# Altium schematic symbol library capacitor.SchLib: 57 symbols
Pins are listed as number, name and electrical type; pins without a type are passive.

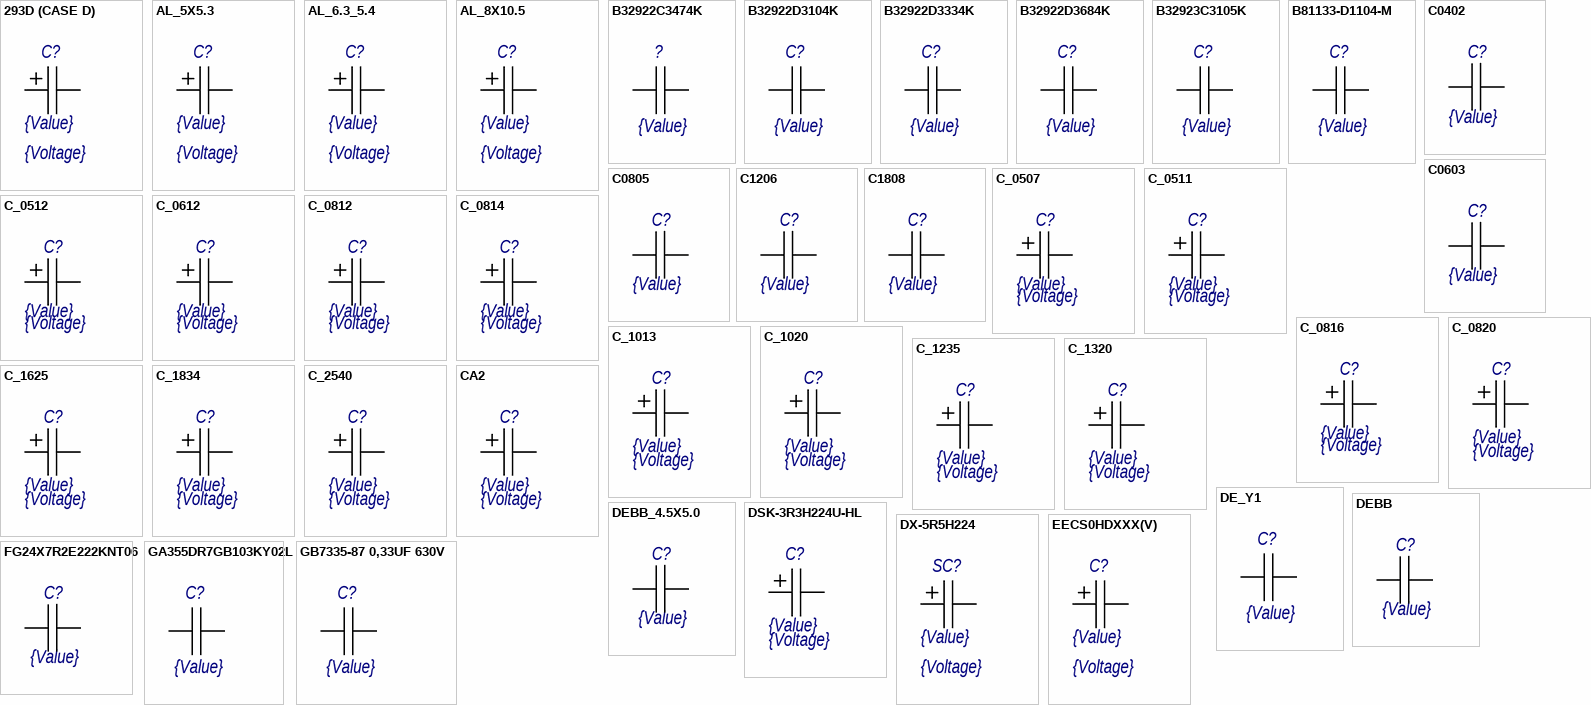
[diagram p0: symbols 293D (CASE D) to GB7335-87 0,33UF 630V]

## 293D (CASE D)
designator C?  value {Value}  Voltage: {Voltage}  (hidden comment: 293D (CASE D))
Prec: {Prec}; Term: {Term}; Pack: {Pack}
footprint 293D CASE D
pins: 1 A, 2 B

## AL_5X5.3
designator C?  value {Value}  Voltage: {Voltage}  (hidden comment: AL_5X5.3)
Prec: {Prec}; Term: {Term}; Pack: {Pack}
footprint AL_5X5.3
pins: 1 A, 2 B

## AL_6.3_5.4
designator C?  value {Value}  Voltage: {Voltage}  (hidden comment: AL_6.3_5.4)
Prec: {Prec}; Term: {Term}; Pack: {Pack}
footprint AL_6.3_5.4
pins: 1 A, 2 B

## AL_8X10.5
designator C?  value {Value}  Voltage: {Voltage}  (hidden comment: AL_8X10.5)
Prec: {Prec}; Term: {Term}; Pack: {Pack}
footprint AL_8X10.5
pins: 1 A, 2 B

## B32922C3474K
designator ?  value {Value}  (hidden comment: B32922C3474K)
Prec: {Prec}; Voltage: {Voltage}; Term: {Term}; Pack: {Pack}
footprint B32922C3474K
pins: 1 A, 2 B

## B32922D3104K
designator C?  value {Value}  (hidden comment: B32922D3104K)
Prec: {Prec}; Voltage: {Voltage}; Term: {Term}; Pack: {Pack}
footprint B32922D3104K
pins: 1 A, 2 B

## B32922D3334K
designator C?  value {Value}  (hidden comment: B32922D3334K)
Prec: {Prec}; Voltage: {Voltage}; Term: {Term}; Pack: {Pack}
footprint B32922D3334K
pins: 1 A, 2 B

## B32922D3684K
designator C?  value {Value}  (hidden comment: B32922D3684K)
Prec: {Prec}; Voltage: {Voltage}; Term: {Term}; Pack: {Pack}
footprint B32922D3684K
pins: 1 A, 2 B

## B32923C3105K
designator C?  value {Value}  (hidden comment: B32923C3105K)
Prec: {Prec}; Voltage: {Voltage}; Term: {Term}; Pack: {Pack}
footprint B32923C3105
pins: 1 A, 2 B

## B81133-D1104-M
designator C?  value {Value}  (hidden comment: B81133-D1104-M)
Prec: {Prec}; Voltage: {Voltage}; Term: {Term}; Pack: {Pack}
footprint K73-17-0.1UF-400V
pins: 1 A, 2 B

## C0402
designator C?  value {Value}  (hidden comment: C0402)
Prec: {Prec}; Voltage: {Voltage}; Term: {Term}; Pack: {Pack}
footprint SMD0402
pins: 1 A, 2 B

## C0603
designator C?  value {Value}  (hidden comment: C0603)
Prec: {Prec}; Voltage: {Voltage}; Term: {Term}; Pack: {Pack}
footprint SMD0603
pins: 1 A, 2 B

## C0805
designator C?  value {Value}  (hidden comment: C0805)
Prec: {Prec}; Voltage: {Voltage}; Term: {Term}; Pack: {Pack}
footprint SMD0805
pins: 1 A, 2 B

## C1206
designator C?  value {Value}  (hidden comment: C1206)
Prec: {Prec}; Voltage: {Voltage}; Term: {Term}; Pack: {Pack}
footprint SMD1206
pins: 1 A, 2 B

## C1808
designator C?  value {Value}  (hidden comment: C1808)
Prec: {Prec}; Voltage: {Voltage}; Term: {Term}; Pack: {Pack}
footprint SMD1808
pins: 1 A, 2 B

## C_0507
designator C?  value {Value}  Voltage: {Voltage}  (hidden comment: C_0507)
Prec: {Prec}; Term: {Term}; Pack: {Pack}
footprint C_0507
pins: 1 A, 2 B

## C_0511
designator C?  value {Value}  Voltage: {Voltage}  (hidden comment: C_0511)
Prec: {Prec}; Term: {Term}; Pack: {Pack}
footprint C_0511
pins: 1 A, 2 B

## C_0512
designator C?  value {Value}  Voltage: {Voltage}  (hidden comment: C_0512)
Prec: {Prec}; Term: {Term}; Pack: {Pack}
footprint C_0512
pins: 1 A, 2 B

## C_0612
designator C?  value {Value}  Voltage: {Voltage}  (hidden comment: C_0612)
Prec: {Prec}; Term: {Term}; Pack: {Pack}
footprint C_0612
pins: 1 A, 2 B

## C_0812
designator C?  value {Value}  Voltage: {Voltage}  (hidden comment: C_0812)
Prec: {Prec}; Term: {Term}; Pack: {Pack}
footprint C_0812
pins: 1 A, 2 B

## C_0814
designator C?  value {Value}  Voltage: {Voltage}  (hidden comment: C_0814)
Prec: {Prec}; Term: {Term}; Pack: {Pack}
footprint C_0814
pins: 1 A, 2 B

## C_0816
designator C?  value {Value}  Voltage: {Voltage}  (hidden comment: C_0816)
Prec: {Prec}; Term: {Term}; Pack: {Pack}
footprint C_0816
pins: 1 A, 2 B

## C_0820
designator C?  value {Value}  Voltage: {Voltage}  (hidden comment: C_0820)
Prec: {Prec}; Term: {Term}; Pack: {Pack}
footprint C_0820
pins: 1 A, 2 B

## C_1013
designator C?  value {Value}  Voltage: {Voltage}  (hidden comment: C_1013)
Prec: {Prec}; Term: {Term}; Pack: {Pack}
footprint C_1013
pins: 1 A, 2 B

## C_1020
designator C?  value {Value}  Voltage: {Voltage}  (hidden comment: C_1020)
Prec: {Prec}; Term: {Term}; Pack: {Pack}
footprint C_1020
pins: 1 A, 2 B

## C_1235
designator C?  value {Value}  Voltage: {Voltage}  (hidden comment: C_1235)
Prec: {Prec}; Term: {Term}; Pack: {Pack}; ComponentHeight: 35
footprint C_1235
pins: 1 A, 2 B

## C_1320
designator C?  value {Value}  Voltage: {Voltage}  (hidden comment: C_1320)
Prec: {Prec}; Term: {Term}; Pack: {Pack}
footprint C_1320
pins: 1 A, 2 B

## C_1625
designator C?  value {Value}  Voltage: {Voltage}  (hidden comment: C_1625)
Prec: {Prec}; Term: {Term}; Pack: {Pack}
footprint C_1625
pins: 1 A, 2 B

## C_1834
designator C?  value {Value}  Voltage: {Voltage}  (hidden comment: C_1834)
Prec: {Prec}; Term: {Term}; Pack: {Pack}
footprint C_1834
pins: 1 A, 2 B

## C_2540
designator C?  value {Value}  Voltage: {Voltage}  (hidden comment: C_2540)
Prec: {Prec}; Term: {Term}; Pack: {Pack}
footprint C_2540
pins: 1 A, 2 B

## CA2
designator C?  value {Value}  Voltage: {Voltage}  (hidden comment: CA2)
Prec: {Prec}; Term: {Term}; Pack: {Pack}
footprint CA2
pins: 1 A, 2 B

## DE_Y1
designator C?  value {Value}  (hidden comment: DE_Y1)
Prec: {Prec}; Voltage: {Voltage}; Term: {Term}; Pack: {Pack}
footprint DE
pins: 1 A, 2 B

## DEBB
designator C?  value {Value}  (hidden comment: DEBB)
Prec: {Prec}; Voltage: {Voltage}; Term: {Term}; Pack: {Pack}
footprint DEBB
pins: 1 A, 2 B

## DEBB_4.5X5.0
designator C?  value {Value}  (hidden comment: DEBB_4.5X5.0)
Prec: {Prec}; Voltage: {Voltage}; Term: {Term}; Pack: {Pack}
footprint DEBB_4.5X5.0
pins: 1 A, 2 B

## DSK-3R3H224U-HL
designator C?  value {Value}  Voltage: {Voltage}  (hidden comment: DSK-3R3H224U-HL)
Prec: {Prec}; Term: {Term}; Pack: {Pack}
footprint DSK_DS
pins: 1 A, 2 B

## DX-5R5H224
designator SC?  value {Value}  Voltage: {Voltage}  (hidden comment: DX-5R5H224)
Prec: {Prec}; Term: {Term}; Pack: {Pack}
footprint DX-5R5H224_DX-5R5H224(Primary)
pins: 1 A, 2 B

## EECS0HDXXX(V)
designator C?  value {Value}  Voltage: {Voltage}  (hidden comment: EECS0HDXXX(V))
Prec: {Prec}; Term: {Term}; Pack: {Pack}
footprint EECS0HDXXX
pins: 1 A, 2 B

## FG24X7R2E222KNT06
designator C?  value {Value}  (hidden comment: FG24X7R2E222KNT06)
Prec: {Prec}; Voltage: {Voltage}; Term: {Term}; Pack: {Pack}
footprint CAP 5mm
pins: 1 A, 2 B

## GA355DR7GB103KY02L
designator C?  value {Value}  (hidden comment: GA355DR7GB103KY02L)
Prec: {Prec}; Voltage: {Voltage}; Term: {Term}; Pack: {Pack}
footprint SMD2220
pins: 1 A, 2 B

## GB7335-87 0,33UF 630V
designator C?  value {Value}  (hidden comment: GB7335-87 0,33UF 630V)
Prec: {Prec}; Voltage: {Voltage}; Term: {Term}; Pack: {Pack}
footprint GB7335-87 0.33 630V
pins: 1 A, 2 B

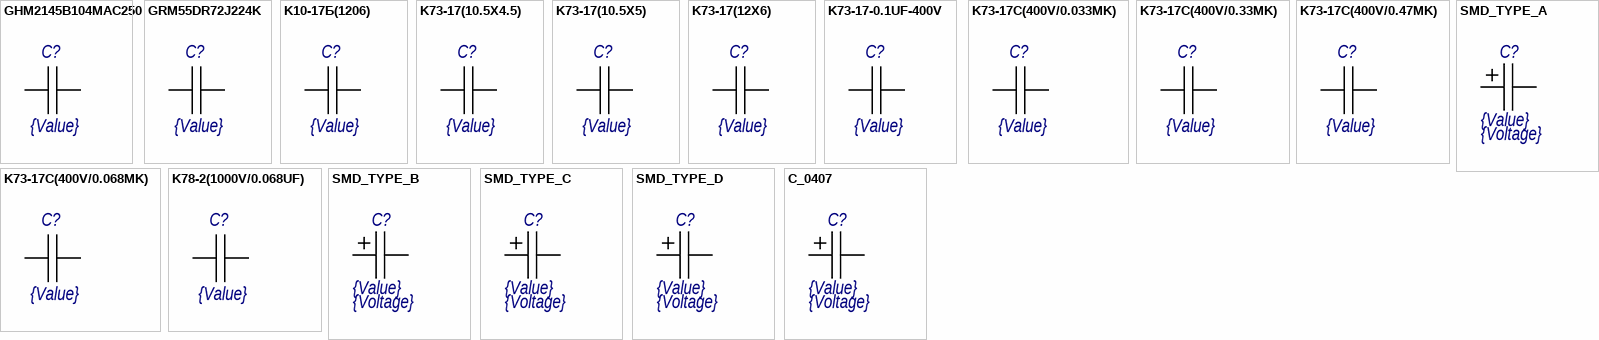
[diagram p1: symbols GHM2145B104MAC250 to С_0407]

## GHM2145B104MAC250
designator C?  value {Value}  (hidden comment: GHM2145B104MAC250)
Prec: {Prec}; Voltage: {Voltage}; Term: {Term}; Pack: {Pack}
footprint SMD2220
pins: 1 A, 2 B

## GRM55DR72J224K
designator C?  value {Value}  (hidden comment: GRM55DR72J224K)
Prec: {Prec}; Voltage: {Voltage}; Term: {Term}; Pack: {Pack}
footprint SMD2220
pins: 1 A, 2 B

## K10-17Б(1206)
designator C?  value {Value}  (hidden comment: K10-17Б(1206))
Prec: {Prec}; Voltage: {Voltage}; Term: {Term}; Pack: {Pack}
footprint K10-17Б(1206)
pins: 1 A, 2 B

## K73-17(10.5X4.5)
designator C?  value {Value}  (hidden comment: K73-17(10.5X4.5))
Prec: {Prec}; Voltage: {Voltage}; Term: {Term}; Pack: {Pack}
footprint K73-17(10.5X4.5)
pins: 1 A, 2 B

## K73-17(10.5X5)
designator C?  value {Value}  (hidden comment: K73-17(10.5X5))
Prec: {Prec}; Voltage: {Voltage}; Term: {Term}; Pack: {Pack}
footprint K73-17(10.5X5)
pins: 1 A, 2 B

## K73-17(12X6)
designator C?  value {Value}  (hidden comment: K73-17(12X6))
Prec: {Prec}; Voltage: {Voltage}; Term: {Term}; Pack: {Pack}
footprint K73-17(12X6)
pins: 1 A, 2 B

## K73-17-0.1UF-400V
designator C?  value {Value}  (hidden comment: K73-17-0.1UF-400V)
Prec: {Prec}; Voltage: {Voltage}; Term: {Term}; Pack: {Pack}
footprint K73-17-0.1UF-400V
pins: 1 A, 2 B

## K73-17C(400V/0.033MK)
designator C?  value {Value}  (hidden comment: K73-17C(400V/0.033MK))
Prec: {Prec}; Voltage: {Voltage}; Term: {Term}; Pack: {Pack}
footprint K73-17C(400V/0.033MK)
pins: 1 A, 2 B

## K73-17C(400V/0.33MK)
designator C?  value {Value}  (hidden comment: K73-17C(400V/0.33MK))
Prec: {Prec}; Voltage: {Voltage}; Term: {Term}; Pack: {Pack}
footprint L23B8.5H19A20
pins: 1 A, 2 B

## K73-17C(400V/0.47MK)
designator C?  value {Value}  (hidden comment: K73-17C(400V/0.47MK))
Prec: {Prec}; Voltage: {Voltage}; Term: {Term}; Pack: {Pack}
footprint L23B10H19A20
pins: 1 A, 2 B

## K73-17C(400V/0.068MK)
designator C?  value {Value}  (hidden comment: K73-17C(400V/0.068MK))
Prec: {Prec}; Voltage: {Voltage}; Term: {Term}; Pack: {Pack}
footprint K73-17C(400V/0.068MK)
pins: 1 A, 2 B

## K78-2(1000V/0.068UF)
designator C?  value {Value}  (hidden comment: K78-2(1000V/0.068UF))
Prec: {Prec}; Voltage: {Voltage}; Term: {Term}; Pack: {Pack}
footprint K78-2(1000V/0.068UF)
pins: 1 A, 2 B

## SMD_TYPE_A
designator C?  value {Value}  Voltage: {Voltage}  (hidden comment: SMD_TYPE_A)
Prec: {Prec}; Term: {Term}; Pack: {Pack}
footprint SMD_TYPE_A
footprint SMD1206
pins: 1 A, 2 B

## SMD_TYPE_B
designator C?  value {Value}  Voltage: {Voltage}  (hidden comment: SMD_TYPE_B)
Prec: {Prec}; Term: {Term}; Pack: {Pack}
footprint SMD_TYPE_B
pins: 1 A, 2 B

## SMD_TYPE_C
designator C?  value {Value}  Voltage: {Voltage}  (hidden comment: SMD_TYPE_C)
Prec: {Prec}; Term: {Term}; Pack: {Pack}
footprint SMD_TYPE_C
pins: 1 A, 2 B

## SMD_TYPE_D
designator C?  value {Value}  Voltage: {Voltage}  (hidden comment: SMD_TYPE_D)
Prec: {Prec}; Term: {Term}; Pack: {Pack}
footprint SMD_TYPE_D
pins: 1 A, 2 B

## С_0407
designator C?  value {Value}  Voltage: {Voltage}  (hidden comment: С_0407)
Prec: {Prec}; Term: {Term}; Pack: {Pack}
footprint C_0407
pins: 1 A, 2 B